# Altium footprint library 6903 6819 xx 72.PcbLib: 12 footprints
Each footprint in its own frame and in the unit in brackets; x right, y up, seen from the top. Pads: shape width x height; smd on the part's side, far side on the other; paste and mask are expansions set on the pad; w line width, h text height; cw(c..) or ccw(c..) is an arc to the next point about the centre after c.
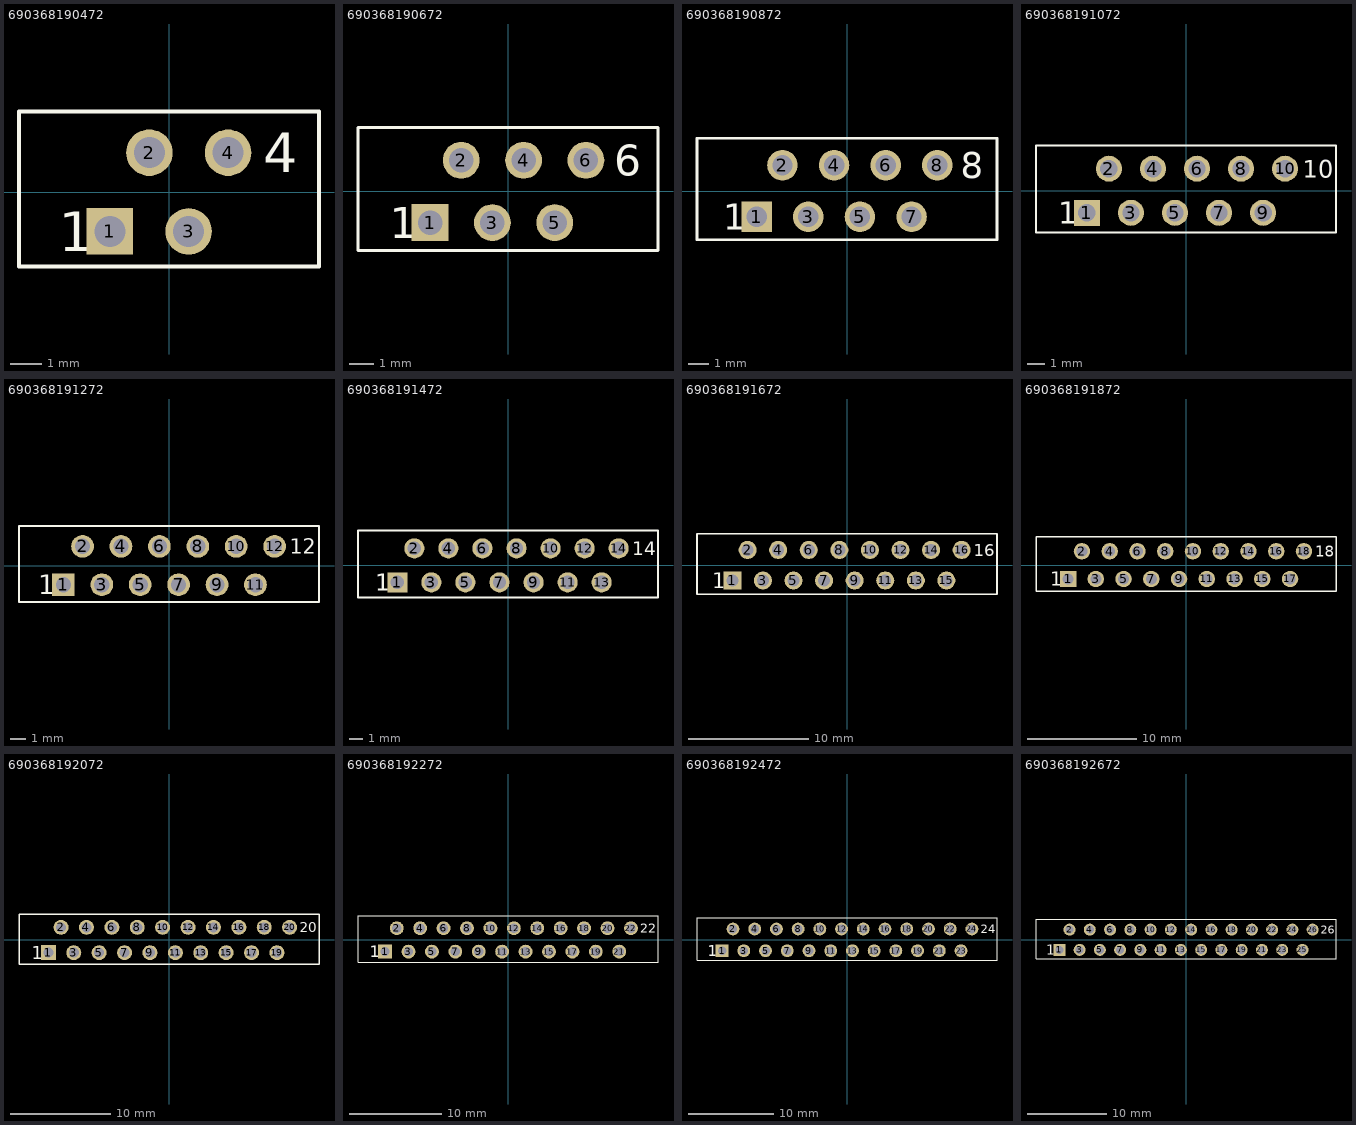
[diagram p0: the footprints below, top view; thin cyan lines are the x and y axes]

## 690368190472 [mm] "and Polarization, 4 pins, right angled"
height 5.8
pads (4):
  rect 1.5x1.5 hole 1: 1(-1.905,-1.27)
  round 1.5 hole 1: 2(-0.635,1.27) 3(0.635,-1.27) 4(1.905,1.27)
Top Overlay:
  lines w0.127: -4.84,-2.4 4.84,-2.4 4.84,2.6 -4.84,2.6 -4.84,-2.4
  text "4" at 3.048,0.635 h1.27
  text "1" at -3.556,-1.905 h1.27
3D body: height 5.9, standoff -3, extent -4.84,-2.4 4.84,2.6

## 690368190672 [mm] "and Polarization, 6 pins, right angled"
height 5.8
pads (6):
  rect 1.5x1.5 hole 1: 1(-3.175,-1.27)
  round 1.5 hole 1: 2(-1.905,1.27) 3(-0.635,-1.27) 4(0.635,1.27) 5(1.905,-1.27) 6(3.175,1.27)
Top Overlay:
  lines w0.127: -6.11,-2.4 6.11,-2.4 6.11,2.6 -6.11,2.6 -6.11,-2.4
  text "1" at -4.826,-1.905 h1.27
  text "6" at 4.318,0.635 h1.27
3D body: height 5.9, standoff -3, extent -6.11,-2.389 6.11,2.611

## 690368190872 [mm] "and Polarization, 8 pins, right angled"
height 5.8
pads (8):
  rect 1.5x1.5 hole 1: 1(-4.445,-1.27)
  round 1.5 hole 1: 2(-3.175,1.27) 3(-1.905,-1.27) 4(-0.635,1.27) 5(0.635,-1.27) 6(1.905,1.27) 7(3.175,-1.27) 8(4.445,1.27)
Top Overlay:
  lines w0.127: -7.38,-2.4 -7.38,2.6 7.38,2.6 7.38,-2.4 -7.38,-2.4
  text "8" at 5.588,0.635 h1.27
  text "1" at -6.096,-1.905 h1.27
3D body: height 5.9, standoff -3, extent -7.38,-2.4 7.38,2.6

## 690368191072 [mm] "and Polarization, 10 pins, right angled"
height 5.8
pads (10):
  rect 1.5x1.5 hole 1: 1(-5.715,-1.27)
  round 1.5 hole 1: 2(-4.445,1.27) 3(-3.175,-1.27) 4(-1.905,1.27) 5(-0.635,-1.27) 6(0.635,1.27) 7(1.905,-1.27) 8(3.175,1.27) 9(4.445,-1.27) 10(5.715,1.27)
Top Overlay:
  lines w0.127: -8.65,-2.4 8.65,-2.4 8.65,2.6 -8.65,2.6 -8.65,-2.4
  text "1" at -7.366,-1.905 h1.27
  text "10" at 6.731,0.762 h1
3D body: height 5.9, standoff -3, extent -8.65,-2.4 8.65,2.6

## 690368191272 [mm] "and Polarization, 12 pins, right angled"
height 5.8
pads (12):
  rect 1.5x1.5 hole 1: 1(-6.985,-1.27)
  round 1.5 hole 1: 2(-5.715,1.27) 3(-4.445,-1.27) 4(-3.175,1.27) 5(-1.905,-1.27) 6(-0.635,1.27) 7(0.635,-1.27) 8(1.905,1.27) 9(3.175,-1.27) 10(4.445,1.27) 11(5.715,-1.27) 12(6.985,1.27)
Top Overlay:
  lines w0.127: -9.92,-2.4 -9.92,2.6 9.92,2.6 9.92,-2.4 -9.92,-2.4
  text "12" at 8.001,0.762 h1
  text "1" at -8.636,-1.905 h1.27
3D body: height 5.9, standoff -3, extent -9.92,-2.4 9.92,2.6

## 690368191472 [mm] "and Polarization, 14 pins, right angled"
height 5.8
pads (14):
  rect 1.5x1.5 hole 1: 1(-8.255,-1.27)
  round 1.5 hole 1: 2(-6.985,1.27) 3(-5.715,-1.27) 4(-4.445,1.27) 5(-3.175,-1.27) 6(-1.905,1.27) 7(-0.635,-1.27) 8(0.635,1.27) 9(1.905,-1.27) 10(3.175,1.27) 11(4.445,-1.27) 12(5.715,1.27) 13(6.985,-1.27) 14(8.255,1.27)
Top Overlay:
  lines w0.127: -11.19,-2.4 -11.19,2.6 11.19,2.6 11.19,-2.4 -11.19,-2.4
  text "14" at 9.271,0.762 h1
  text "1" at -9.906,-1.905 h1.27
3D body: height 5.9, standoff -3, extent -11.19,-2.4 11.19,2.6

## 690368191672 [mm] "and Polarization, 16 pins, right angled"
height 5.8
pads (16):
  rect 1.5x1.5 hole 1: 1(-9.525,-1.27)
  round 1.5 hole 1: 2(-8.255,1.27) 3(-6.985,-1.27) 4(-5.715,1.27) 5(-4.445,-1.27) 6(-3.175,1.27) 7(-1.905,-1.27) 8(-0.635,1.27) 9(0.635,-1.27) 10(1.905,1.27) 11(3.175,-1.27) 12(4.445,1.27) 13(5.715,-1.27) 14(6.985,1.27) 15(8.255,-1.27) 16(9.525,1.27)
Top Overlay:
  lines w0.127: -12.46,-2.4 12.46,-2.4 12.46,2.6 -12.46,2.6 -12.46,-2.4
  text "1" at -11.176,-1.905 h1.27
  text "16" at 10.541,0.762 h1
3D body: height 5.9, standoff -3, extent -12.46,-2.4 12.46,2.6

## 690368191872 [mm] "and Polarization, 18 pins, right angled"
height 5.8
pads (18):
  rect 1.5x1.5 hole 1: 1(-10.795,-1.27)
  round 1.5 hole 1: 2(-9.525,1.27) 3(-8.255,-1.27) 4(-6.985,1.27) 5(-5.715,-1.27) 6(-4.445,1.27) 7(-3.175,-1.27) 8(-1.905,1.27) 9(-0.635,-1.27) 10(0.635,1.27) 11(1.905,-1.27) 12(3.175,1.27) 13(4.445,-1.27) 14(5.715,1.27) 15(6.985,-1.27) 16(8.255,1.27) 17(9.525,-1.27) 18(10.795,1.27)
Top Overlay:
  lines w0.127: -13.73,-2.4 13.73,-2.4 13.73,2.6 -13.73,2.6 -13.73,-2.4
  text "1" at -12.446,-1.905 h1.27
  text "18" at 11.811,0.762 h1
3D body: height 5.9, standoff -3, extent -13.73,-2.4 13.73,2.6

## 690368192072 [mm] "and Polarization, 20 pins, right angled"
height 5.8
pads (20):
  rect 1.5x1.5 hole 1: 1(-12.065,-1.27)
  round 1.5 hole 1: 2(-10.795,1.27) 3(-9.525,-1.27) 4(-8.255,1.27) 5(-6.985,-1.27) 6(-5.715,1.27) 7(-4.445,-1.27) 8(-3.175,1.27) 9(-1.905,-1.27) 10(-0.635,1.27) 11(0.635,-1.27) 12(1.905,1.27) 13(3.175,-1.27) 14(4.445,1.27) 15(5.715,-1.27) 16(6.985,1.27) 17(8.255,-1.27) 18(9.525,1.27) 19(10.795,-1.27) 20(12.065,1.27)
Top Overlay:
  lines w0.127: -15,-2.4 -15,2.6 15,2.6 15,-2.4 -15,-2.4
  text "20" at 13.081,0.762 h1
  text "1" at -13.716,-1.905 h1.27
3D body: height 5.9, standoff -3, extent -15,-2.4 15,2.6

## 690368192272 [mm] "and Polarization, 22 pins, right angled"
height 5.8
pads (22):
  rect 1.5x1.5 hole 1: 1(-13.335,-1.27)
  round 1.5 hole 1: 2(-12.065,1.27) 3(-10.795,-1.27) 4(-9.525,1.27) 5(-8.255,-1.27) 6(-6.985,1.27) 7(-5.715,-1.27) 8(-4.445,1.27) 9(-3.175,-1.27) 10(-1.905,1.27) 11(-0.635,-1.27) 12(0.635,1.27) 13(1.905,-1.27) 14(3.175,1.27) 15(4.445,-1.27) 16(5.715,1.27) 17(6.985,-1.27) 18(8.255,1.27) 19(9.525,-1.27) 20(10.795,1.27) 21(12.065,-1.27) 22(13.335,1.27)
Top Overlay:
  lines w0.127: -16.27,-2.4 16.27,-2.4 16.27,2.6 -16.27,2.6 -16.27,-2.4
  text "1" at -14.986,-1.905 h1.27
  text "22" at 14.351,0.762 h1
3D body: height 5.9, standoff -3, extent -16.27,-2.4 16.27,2.6

## 690368192472 [mm] "and Polarization, 24 pins, right angled"
height 5.8
pads (24):
  rect 1.5x1.5 hole 1: 1(-14.605,-1.27)
  round 1.5 hole 1: 2(-13.335,1.27) 3(-12.065,-1.27) 4(-10.795,1.27) 5(-9.525,-1.27) 6(-8.255,1.27) 7(-6.985,-1.27) 8(-5.715,1.27) 9(-4.445,-1.27) 10(-3.175,1.27) 11(-1.905,-1.27) 12(-0.635,1.27) 13(0.635,-1.27) 14(1.905,1.27) 15(3.175,-1.27) 16(4.445,1.27) 17(5.715,-1.27) 18(6.985,1.27) 19(8.255,-1.27) 20(9.525,1.27) 21(10.795,-1.27) 22(12.065,1.27) 23(13.335,-1.27) 24(14.605,1.27)
Top Overlay:
  lines w0.127: -17.54,-2.4 -17.54,2.6 17.54,2.6 17.54,-2.4 -17.54,-2.4
  text "24" at 15.621,0.762 h1
  text "1" at -16.256,-1.905 h1.27
3D body: height 5.9, standoff -3, extent -17.54,-2.4 17.54,2.6

## 690368192672 [mm] "and Polarization, 26 pins, right angled"
height 5.8
pads (26):
  rect 1.5x1.5 hole 1: 1(-15.875,-1.27)
  round 1.5 hole 1: 2(-14.605,1.27) 3(-13.335,-1.27) 4(-12.065,1.27) 5(-10.795,-1.27) 6(-9.525,1.27) 7(-8.255,-1.27) 8(-6.985,1.27) 9(-5.715,-1.27) 10(-4.445,1.27) 11(-3.175,-1.27) 12(-1.905,1.27) 13(-0.635,-1.27) 14(0.635,1.27) 15(1.905,-1.27) 16(3.175,1.27) 17(4.445,-1.27) 18(5.715,1.27) 19(6.985,-1.27) 20(8.255,1.27) 21(9.525,-1.27) 22(10.795,1.27) 23(12.065,-1.27) 24(13.335,1.27) 25(14.605,-1.27) 26(15.875,1.27)
Top Overlay:
  lines w0.127: -18.81,-2.4 18.81,-2.4 18.81,2.6 -18.81,2.6 -18.81,-2.4
  text "1" at -17.526,-1.905 h1.27
  text "26" at 16.891,0.762 h1
3D body: height 5.9, standoff -3, extent -18.81,-2.4 18.81,2.6